# Altium footprint library PCB - LEADED - SOP - TI SOP-28 PW0028A.PcbLib: 1 footprints
Each footprint in its own frame and in the unit in brackets; x right, y up, seen from the top. Pads: shape width x height; smd on the part's side, far side on the other; paste and mask are expansions set on the pad; w line width, h text height; cw(c..) or ccw(c..) is an arc to the next point about the centre after c.
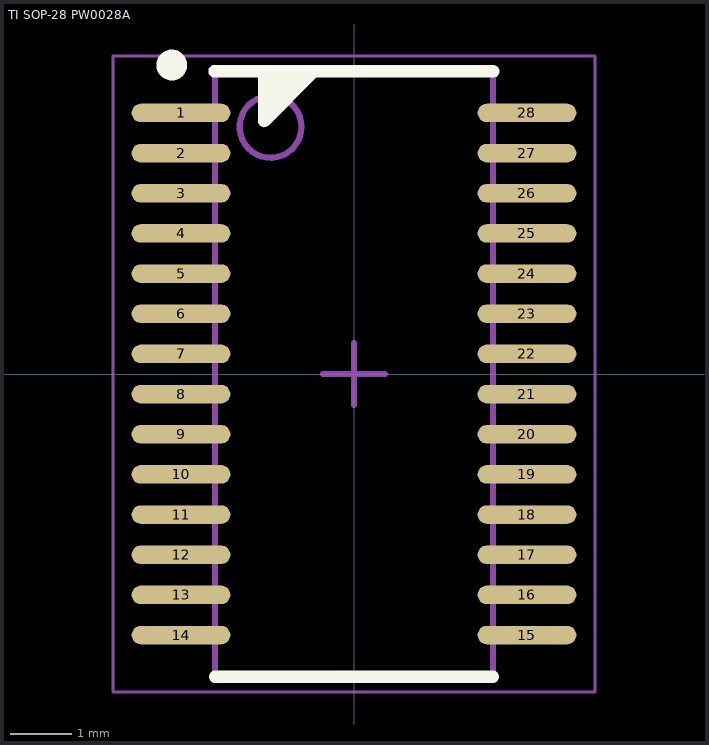
[diagram p0: the footprint, top view; thin cyan lines are the x and y axes]

## TI SOP-28 PW0028A [mm] "TSOP, 28-Leads, Body 9.70x4.40mm, Pitch 0.65mm, IPC Medium Density"
height 1.2
pads (28):
  oval 1.6x0.3 smd: 1(-2.8,4.225) 2(-2.8,3.575) 3(-2.8,2.925) 4(-2.8,2.275) 5(-2.8,1.625) 6(-2.8,0.975) 7(-2.8,0.325) 8(-2.8,-0.325) 9(-2.8,-0.975) 10(-2.8,-1.625) 11(-2.8,-2.275) 12(-2.8,-2.925) 13(-2.8,-3.575) 14(-2.8,-4.225) 15(2.8,-4.225) 16(2.8,-3.575) 17(2.8,-2.925) 18(2.8,-2.275) 19(2.8,-1.625) 20(2.8,-0.975) 21(2.8,-0.325) 22(2.8,0.325) 23(2.8,0.975) 24(2.8,1.625) 25(2.8,2.275) 26(2.8,2.925) 27(2.8,3.575) 28(2.8,4.225)
Top Overlay:
  circle w0.25: c-2.95,5 r0.125
  region: -2.25,4.8 -1.55,4.8 -1.55,4.1 -1.55,4.069 -1.516,4.019 -1.46,3.996 -1.4,4.008 -1.379,4.029 -0.608,4.8 2.25,4.8 2.27,4.8 2.307,4.815 2.335,4.843 2.35,4.88 2.35,4.9 2.35,4.92 2.335,4.957 2.307,4.985 2.27,5 2.25,5 -2.25,5 -2.292,5 -2.35,4.942 -2.35,4.858 -2.292,4.8
  lines w0.2: -2.25,-4.9 2.25,-4.9 ; -2.25,4.9 2.25,4.9 ; -1.45,4.9 -1.45,4.1 ; -0.65,4.9 -1.45,4.1 ; -1.45,4.1 -1.45,4.1
Mechanical 13:
  circle w0.1: c-1.35,4 r0.5
  lines w0.1: -2.25,-4.9 2.25,-4.9 2.25,4.9 -2.25,4.9 -2.25,-4.9
Mechanical 15:
  lines w0.05: -3.9,-5.15 3.9,-5.15 3.9,5.15 -3.9,5.15 -3.9,-5.15
Mechanical 2 (Mech9):
  lines w0.1: -0.5,0 0.5,0 ; 0,-0.5 0,0.5
3D body "TI - SOP-28 - PWPW0028A v1.STEP": height 1.2, standoff 0, extent -3.2,-4.85 3.2,4.85